# Altium footprint library Connector_Molex.PcbLib: 815 footprints (part 19 of 51)
Each footprint in its own frame and in the unit in brackets; x right, y up, seen from the top. Pads: shape width x height; smd on the part's side, far side on the other; paste and mask are expansions set on the pad; w line width, h text height; cw(c..) or ccw(c..) is an arc to the next point about the centre after c.
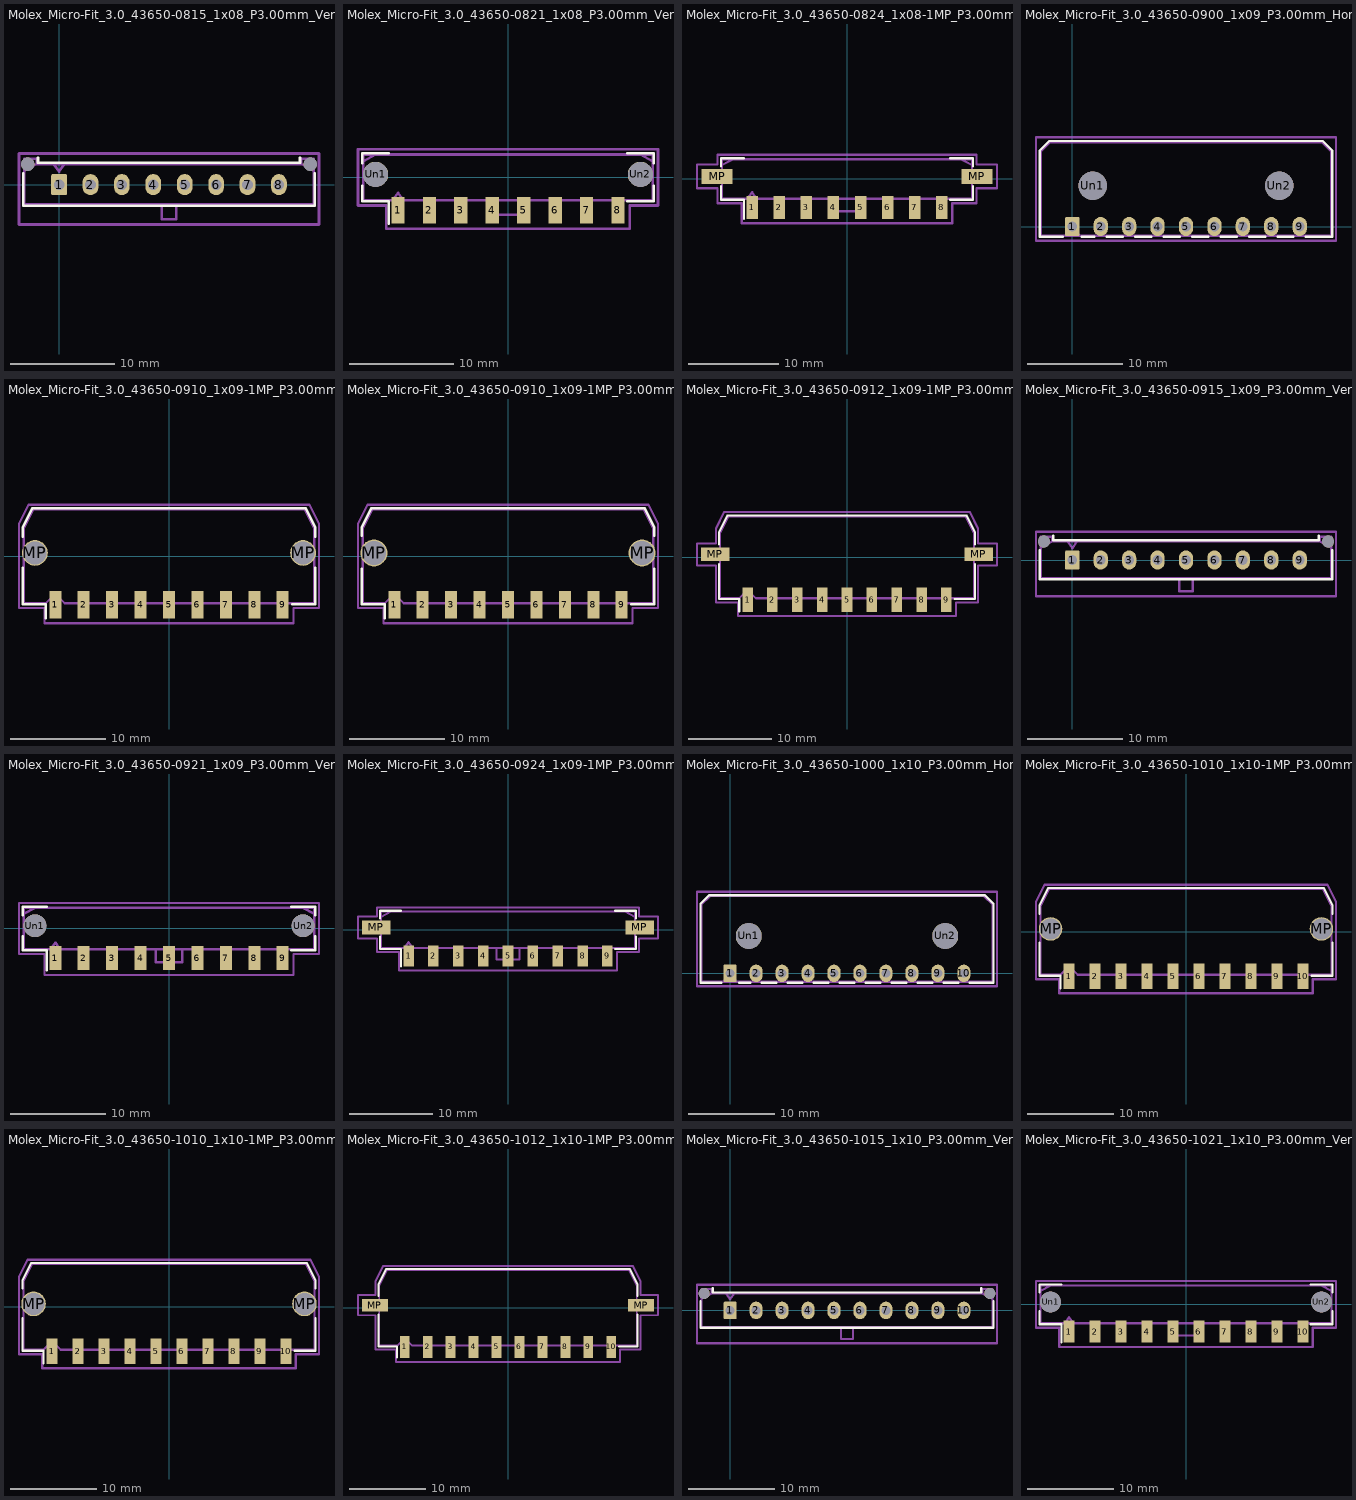
[diagram p18: the footprints below, top view; thin cyan lines are the x and y axes]

## Molex_Micro-Fit_3.0_43650-0815_1x08_P3.00mm_Vertical [mm]
pads (10):
  rrect17% 1.5x2.02 hole 1.02: 1(0,0)
  rrect100% 1.5x2.02 hole 1.02: 2(3,0) 3(6,0) 4(9,0) 5(12,0) 6(15,0) 7(18,0) 8(21,0)
  round 1.27 hole 1.27: Un1(-3,1.96) Un2(24,1.96)
F.SilkS:
  lines w0.254: -3.435,1.065 -3.435,-2.01 24.435,-2.01 24.435,1.065 ; -1.995,2.58 -2.015,2.58 -2.015,2.08 23.015,2.08 23.015,2.58 22.995,2.58
Top Assembly:
  lines w0.254: -3.325,1.34 -2.125,1.97 ; -0.5,1.97 0,1.263 0.5,1.97 ; 9.8,-1.9 9.8,-3.3 11.2,-3.3 11.2,-1.9 ; 24.325,1.34 23.125,1.97 ; -2.125,1.97 23.125,1.97 ; -2.125,1.97 -2.125,2.47 -3.325,2.47 -3.325,-1.9 24.325,-1.9 24.325,2.47 23.125,2.47 23.125,1.97
  text "'.Designator'" at 6.453,-2.04 h1
Top Courtyard:
  lines w0.254: -3.83,-3.8 24.83,-3.8 24.83,2.97 -3.83,2.97 -3.83,-3.8
Top Designator:
  text ".Designator" at 2.882,-0.923 h1.52

## Molex_Micro-Fit_3.0_43650-0821_1x08_P3.00mm_Vertical [mm]
pads (10):
  rect 1.27x2.54 smd: 1(-10.5,-3.135) 2(-7.5,-3.135) 3(-4.5,-3.135) 4(-1.5,-3.135) 5(1.5,-3.135) 6(4.5,-3.135) 7(7.5,-3.135) 8(10.5,-3.135)
  round 2.41 hole 2.41: Un1(-12.65,0.285) Un2(12.65,0.285)
F.SilkS:
  lines w0.254: -13.935,-0.8 -13.935,-2.295 -11.395,-2.295 -11.395,-4.405 ; -13.935,1.37 -13.935,2.295 -12.515,2.295 -11.395,2.295 ; 11.395,-2.295 13.935,-2.295 13.935,-0.8 ; 11.395,2.295 12.515,2.295 13.935,2.295 13.935,1.37
Top Assembly:
  lines w0.254: -13.825,1.555 -12.625,2.185 ; -11,-2.185 -10.5,-1.478 -10,-2.185 ; -1.4,-2.185 -1.4,-3.585 1.4,-3.585 1.4,-2.185 ; 13.825,1.555 12.625,2.185 ; -12.625,2.185 12.625,2.185 ; -12.625,2.185 -13.825,2.185 -13.825,-2.185 13.825,-2.185 13.825,2.185 12.625,2.185
  text "'.Designator'" at -4.047,-2.32 h1
Top Courtyard:
  lines w0.254: -14.33,-2.69 -11.64,-2.69 -11.64,-4.91 0,-4.91 11.64,-4.91 11.64,-2.69 14.33,-2.69 14.33,2.69 11.64,2.69 0,2.69 -11.64,2.69 -14.33,2.69 -14.33,-2.69
Top Designator:
  text ".Designator" at -7.618,-1.618 h1.52

## Molex_Micro-Fit_3.0_43650-0824_1x08-1MP_P3.00mm_Vertical [mm]
pads (10):
  rect 1.27x2.54 smd: 1(-10.5,-3.135) 2(-7.5,-3.135) 3(-4.5,-3.135) 4(-1.5,-3.135) 5(1.5,-3.135) 6(4.5,-3.135) 7(7.5,-3.135) 8(10.5,-3.135)
  rect 3.43x1.65 smd: MP(-14.385,0.285) MP(14.385,0.285)
F.SilkS:
  lines w0.254: -13.935,-0.8 -13.935,-2.295 -11.395,-2.295 -11.395,-4.405 ; -13.935,1.37 -13.935,2.295 -12.515,2.295 -11.395,2.295 ; 11.395,-2.295 13.935,-2.295 13.935,-0.8 ; 11.395,2.295 12.515,2.295 13.935,2.295 13.935,1.37
Top Assembly:
  lines w0.254: -13.825,1.555 -12.625,2.185 ; -11,-2.185 -10.5,-1.478 -10,-2.185 ; -1.4,-2.185 -1.4,-3.585 1.4,-3.585 1.4,-2.185 ; 13.825,1.555 12.625,2.185 ; -12.625,2.185 12.625,2.185 ; -12.625,2.185 -13.825,2.185 -13.825,-2.185 13.825,-2.185 13.825,2.185 12.625,2.185
  text "'.Designator'" at -4.047,-2.32 h1
Top Courtyard:
  lines w0.254: -16.6,-1.04 -14.33,-1.04 -14.33,-2.69 -11.64,-2.69 -11.64,-4.91 0,-4.91 11.64,-4.91 11.64,-2.69 14.33,-2.69 14.33,-1.04 16.6,-1.04 16.6,1.61 14.33,1.61 14.33,2.69 11.64,2.69 0,2.69 -11.64,2.69 -14.33,2.69 -14.33,1.61 -16.6,1.61 -16.6,-1.04
Top Designator:
  text ".Designator" at -7.618,-1.618 h1.52

## Molex_Micro-Fit_3.0_43650-0900_1x09_P3.00mm_Horizontal [mm]
pads (11):
  rrect17% 1.5x2.02 hole 1.02: 1(0,0)
  rrect100% 1.5x2.02 hole 1.02: 2(3,0) 3(6,0) 4(9,0) 5(12,0) 6(15,0) 7(18,0) 8(21,0) 9(24,0)
  round 3 hole 3: Un1(2.15,4.32) Un2(21.85,4.32)
F.SilkS:
  lines w0.254: -1.01,-1.09 -3.435,-1.09 -3.435,8.03 -2.435,9.03 26.435,9.03 27.435,8.03 27.435,-1.09 24.652,-1.09 ; 1.01,-1.09 2.348,-1.09 ; 3.652,-1.09 5.348,-1.09 ; 6.652,-1.09 8.348,-1.09 ; 9.652,-1.09 11.348,-1.09 ; 12.652,-1.09 14.348,-1.09 ; 15.652,-1.09 17.348,-1.09 ; 18.652,-1.09 20.348,-1.09 ; 21.652,-1.09 23.348,-1.09
Top Assembly:
  lines w0.254: -0.75,-0.98 0,0 0.75,-0.98 ; -3.325,-0.98 27.325,-0.98 27.325,7.92 26.325,8.92 -2.325,8.92 -3.325,7.92 -3.325,-0.98
  text "'.Designator'" at 7.953,7.38 h1
Top Courtyard:
  lines w0.254: -3.83,-1.49 27.83,-1.49 27.83,9.42 -3.83,9.42 -3.83,-1.49
Top Designator:
  text ".Designator" at 4.382,3.457 h1.52

## Molex_Micro-Fit_3.0_43650-0910_1x09-1MP_P3.00mm_Horizontal [mm]
pads (11):
  rect 1.27x2.92 smd: 1(-12,-5.12) 2(-9,-5.12) 3(-6,-5.12) 4(-3,-5.12) 5(0,-5.12) 6(3,-5.12) 7(6,-5.12) 8(9,-5.12) 9(12,-5.12)
  round 2.71 hole 2.41: MP(-14.15,0.35) MP(14.15,0.35)
F.SilkS:
  lines w0.254: -15.435,-1.225 -15.435,-5.06 -13.005,-5.06 -13.005,-6.52 ; -15.435,2.075 -15.435,3.06 -14.435,5.06 0,5.06 14.435,5.06 15.435,3.06 15.435,2.075 ; 13.005,-5.06 15.435,-5.06 15.435,-1.225
Top Assembly:
  lines w0.254: -15.325,-4.95 -13,-4.95 -12,-3.95 -11,-4.95 0,-4.95 12.635,-4.95 15.325,-4.95 15.325,1.705 15.325,2.95 14.325,4.95 0,4.95 -14.325,4.95 -15.325,2.95 -15.325,1.705 -15.325,-4.95
  text "'.Designator'" at -4.047,3.41 h1
Top Courtyard:
  lines w0.254: -15.83,-5.46 -13.14,-5.46 -13.14,-7.08 0,-7.08 13.14,-7.08 13.14,-5.46 15.83,-5.46 15.83,2.21 15.83,3.45 14.83,5.45 0,5.45 -14.83,5.45 -15.83,3.45 -15.83,2.21 -15.83,-5.46
Top Designator:
  text ".Designator" at -7.618,-1.323 h1.52

## Molex_Micro-Fit_3.0_43650-0910_1x09-1MP_P3.00mm_Horizontal_PnP [mm]
pads (11):
  rect 1.27x2.92 smd: 1(-12,-5.12) 2(-9,-5.12) 3(-6,-5.12) 4(-3,-5.12) 5(0,-5.12) 6(3,-5.12) 7(6,-5.12) 8(9,-5.12) 9(12,-5.12)
  round 2.84 hole 2.54: MP(-14.15,0.35) MP(14.15,0.35)
F.SilkS:
  lines w0.254: -15.435,-1.29 -15.435,-5.06 -13.005,-5.06 -13.005,-6.52 ; -15.435,2.14 -15.435,3.06 -14.435,5.06 0,5.06 14.435,5.06 15.435,3.06 15.435,2.14 ; 13.005,-5.06 15.435,-5.06 15.435,-1.29
Top Assembly:
  lines w0.254: -15.325,-4.95 -13,-4.95 -12,-3.95 -11,-4.95 0,-4.95 12.635,-4.95 15.325,-4.95 15.325,1.77 15.325,2.95 14.325,4.95 0,4.95 -14.325,4.95 -15.325,2.95 -15.325,1.77 -15.325,-4.95
  text "'.Designator'" at -4.047,3.41 h1
Top Courtyard:
  lines w0.254: -15.83,-5.46 -13.14,-5.46 -13.14,-7.08 0,-7.08 13.14,-7.08 13.14,-5.46 15.83,-5.46 15.83,2.27 15.83,3.45 14.83,5.45 0,5.45 -14.83,5.45 -15.83,3.45 -15.83,2.27 -15.83,-5.46
Top Designator:
  text ".Designator" at -7.618,-1.323 h1.52

## Molex_Micro-Fit_3.0_43650-0912_1x09-1MP_P3.00mm_Horizontal [mm]
pads (11):
  rect 1.27x2.92 smd: 1(-12,-5.12) 2(-9,-5.12) 3(-6,-5.12) 4(-3,-5.12) 5(0,-5.12) 6(3,-5.12) 7(6,-5.12) 8(9,-5.12) 9(12,-5.12)
  rect 3.43x1.65 smd: MP(-15.885,0.35) MP(15.885,0.35)
F.SilkS:
  lines w0.254: -15.435,-0.845 -15.435,-5.06 -13.005,-5.06 -13.005,-6.52 ; -15.435,1.545 -15.435,3.06 -14.435,5.06 0,5.06 14.435,5.06 15.435,3.06 15.435,1.545 ; 13.005,-5.06 15.435,-5.06 15.435,-0.845
Top Assembly:
  lines w0.254: -15.325,-4.95 -13,-4.95 -12,-3.95 -11,-4.95 0,-4.95 12.635,-4.95 15.325,-4.95 15.325,1.175 15.325,2.95 14.325,4.95 0,4.95 -14.325,4.95 -15.325,2.95 -15.325,1.175 -15.325,-4.95
  text "'.Designator'" at -4.047,3.41 h1
Top Courtyard:
  lines w0.254: -18.1,-0.98 -15.83,-0.98 -15.83,-5.46 -13.14,-5.46 -13.14,-7.08 0,-7.08 13.14,-7.08 13.14,-5.46 15.83,-5.46 15.83,-0.98 18.1,-0.98 18.1,1.68 15.83,1.68 15.83,3.45 14.83,5.45 0,5.45 -14.83,5.45 -15.83,3.45 -15.83,1.68 -18.1,1.68 -18.1,-0.98
Top Designator:
  text ".Designator" at -7.618,-1.323 h1.52

## Molex_Micro-Fit_3.0_43650-0915_1x09_P3.00mm_Vertical [mm]
pads (11):
  rrect17% 1.5x2.02 hole 1.02: 1(0,0)
  rrect100% 1.5x2.02 hole 1.02: 2(3,0) 3(6,0) 4(9,0) 5(12,0) 6(15,0) 7(18,0) 8(21,0) 9(24,0)
  round 1.27 hole 1.27: Un1(-3,1.96) Un2(27,1.96)
F.SilkS:
  lines w0.254: -3.435,1.065 -3.435,-2.01 27.435,-2.01 27.435,1.065 ; -1.995,2.58 -2.015,2.58 -2.015,2.08 26.015,2.08 26.015,2.58 25.995,2.58
Top Assembly:
  lines w0.254: -3.325,1.34 -2.125,1.97 ; -0.5,1.97 0,1.263 0.5,1.97 ; 11.3,-1.9 11.3,-3.3 12.7,-3.3 12.7,-1.9 ; 27.325,1.34 26.125,1.97 ; -2.125,1.97 26.125,1.97 ; -2.125,1.97 -2.125,2.47 -3.325,2.47 -3.325,-1.9 27.325,-1.9 27.325,2.47 26.125,2.47 26.125,1.97
  text "'.Designator'" at 7.953,-2.04 h1
Top Courtyard:
  lines w0.254: -3.83,-3.8 27.83,-3.8 27.83,2.97 -3.83,2.97 -3.83,-3.8
Top Designator:
  text ".Designator" at 4.382,-0.923 h1.52

## Molex_Micro-Fit_3.0_43650-0921_1x09_P3.00mm_Vertical [mm]
pads (11):
  rect 1.27x2.54 smd: 1(-12,-3.135) 2(-9,-3.135) 3(-6,-3.135) 4(-3,-3.135) 5(0,-3.135) 6(3,-3.135) 7(6,-3.135) 8(9,-3.135) 9(12,-3.135)
  round 2.41 hole 2.41: Un1(-14.15,0.285) Un2(14.15,0.285)
F.SilkS:
  lines w0.254: -15.435,-0.8 -15.435,-2.295 -12.895,-2.295 -12.895,-4.405 ; -15.435,1.37 -15.435,2.295 -14.015,2.295 -12.895,2.295 ; 12.895,-2.295 15.435,-2.295 15.435,-0.8 ; 12.895,2.295 14.015,2.295 15.435,2.295 15.435,1.37
Top Assembly:
  lines w0.254: -15.325,1.555 -14.125,2.185 ; -12.5,-2.185 -12,-1.478 -11.5,-2.185 ; -1.4,-2.185 -1.4,-3.585 1.4,-3.585 1.4,-2.185 ; 15.325,1.555 14.125,2.185 ; -14.125,2.185 14.125,2.185 ; -14.125,2.185 -15.325,2.185 -15.325,-2.185 15.325,-2.185 15.325,2.185 14.125,2.185
  text "'.Designator'" at -4.047,-2.32 h1
Top Courtyard:
  lines w0.254: -15.83,-2.69 -13.14,-2.69 -13.14,-4.91 0,-4.91 13.14,-4.91 13.14,-2.69 15.83,-2.69 15.83,2.69 13.14,2.69 0,2.69 -13.14,2.69 -15.83,2.69 -15.83,-2.69
Top Designator:
  text ".Designator" at -7.618,-1.618 h1.52

## Molex_Micro-Fit_3.0_43650-0924_1x09-1MP_P3.00mm_Vertical [mm]
pads (11):
  rect 1.27x2.54 smd: 1(-12,-3.135) 2(-9,-3.135) 3(-6,-3.135) 4(-3,-3.135) 5(0,-3.135) 6(3,-3.135) 7(6,-3.135) 8(9,-3.135) 9(12,-3.135)
  rect 3.43x1.65 smd: MP(-15.885,0.285) MP(15.885,0.285)
F.SilkS:
  lines w0.254: -15.435,-0.8 -15.435,-2.295 -12.895,-2.295 -12.895,-4.405 ; -15.435,1.37 -15.435,2.295 -14.015,2.295 -12.895,2.295 ; 12.895,-2.295 15.435,-2.295 15.435,-0.8 ; 12.895,2.295 14.015,2.295 15.435,2.295 15.435,1.37
Top Assembly:
  lines w0.254: -15.325,1.555 -14.125,2.185 ; -12.5,-2.185 -12,-1.478 -11.5,-2.185 ; -1.4,-2.185 -1.4,-3.585 1.4,-3.585 1.4,-2.185 ; 15.325,1.555 14.125,2.185 ; -14.125,2.185 14.125,2.185 ; -14.125,2.185 -15.325,2.185 -15.325,-2.185 15.325,-2.185 15.325,2.185 14.125,2.185
  text "'.Designator'" at -4.047,-2.32 h1
Top Courtyard:
  lines w0.254: -18.1,-1.04 -15.83,-1.04 -15.83,-2.69 -13.14,-2.69 -13.14,-4.91 0,-4.91 13.14,-4.91 13.14,-2.69 15.83,-2.69 15.83,-1.04 18.1,-1.04 18.1,1.61 15.83,1.61 15.83,2.69 13.14,2.69 0,2.69 -13.14,2.69 -15.83,2.69 -15.83,1.61 -18.1,1.61 -18.1,-1.04
Top Designator:
  text ".Designator" at -7.618,-1.618 h1.52

## Molex_Micro-Fit_3.0_43650-1000_1x10_P3.00mm_Horizontal [mm]
pads (12):
  rrect17% 1.5x2.02 hole 1.02: 1(0,0)
  rrect100% 1.5x2.02 hole 1.02: 2(3,0) 3(6,0) 4(9,0) 5(12,0) 6(15,0) 7(18,0) 8(21,0) 9(24,0) 10(27,0)
  round 3 hole 3: Un1(2.15,4.32) Un2(24.85,4.32)
F.SilkS:
  lines w0.254: -1.01,-1.09 -3.435,-1.09 -3.435,8.03 -2.435,9.03 29.435,9.03 30.435,8.03 30.435,-1.09 27.652,-1.09 ; 1.01,-1.09 2.348,-1.09 ; 3.652,-1.09 5.348,-1.09 ; 6.652,-1.09 8.348,-1.09 ; 9.652,-1.09 11.348,-1.09 ; 12.652,-1.09 14.348,-1.09 ; 15.652,-1.09 17.348,-1.09 ; 18.652,-1.09 20.348,-1.09 ; 21.652,-1.09 23.348,-1.09 ; 24.652,-1.09 26.348,-1.09
Top Assembly:
  lines w0.254: -0.75,-0.98 0,0 0.75,-0.98 ; -3.325,-0.98 30.325,-0.98 30.325,7.92 29.325,8.92 -2.325,8.92 -3.325,7.92 -3.325,-0.98
  text "'.Designator'" at 9.453,7.38 h1
Top Courtyard:
  lines w0.254: -3.83,-1.49 30.83,-1.49 30.83,9.42 -3.83,9.42 -3.83,-1.49
Top Designator:
  text ".Designator" at 5.882,3.457 h1.52

## Molex_Micro-Fit_3.0_43650-1010_1x10-1MP_P3.00mm_Horizontal [mm]
pads (12):
  rect 1.27x2.92 smd: 1(-13.5,-5.12) 2(-10.5,-5.12) 3(-7.5,-5.12) 4(-4.5,-5.12) 5(-1.5,-5.12) 6(1.5,-5.12) 7(4.5,-5.12) 8(7.5,-5.12) 9(10.5,-5.12) 10(13.5,-5.12)
  round 2.71 hole 2.41: MP(-15.65,0.35) MP(15.65,0.35)
F.SilkS:
  lines w0.254: -16.935,-1.225 -16.935,-5.06 -14.505,-5.06 -14.505,-6.52 ; -16.935,2.075 -16.935,3.06 -15.935,5.06 0,5.06 15.935,5.06 16.935,3.06 16.935,2.075 ; 14.505,-5.06 16.935,-5.06 16.935,-1.225
Top Assembly:
  lines w0.254: -16.825,-4.95 -14.5,-4.95 -13.5,-3.95 -12.5,-4.95 0,-4.95 14.135,-4.95 16.825,-4.95 16.825,1.705 16.825,2.95 15.825,4.95 0,4.95 -15.825,4.95 -16.825,2.95 -16.825,1.705 -16.825,-4.95
  text "'.Designator'" at -4.047,3.41 h1
Top Courtyard:
  lines w0.254: -17.33,-5.46 -14.64,-5.46 -14.64,-7.08 0,-7.08 14.64,-7.08 14.64,-5.46 17.33,-5.46 17.33,2.21 17.33,3.45 16.33,5.45 0,5.45 -16.33,5.45 -17.33,3.45 -17.33,2.21 -17.33,-5.46
Top Designator:
  text ".Designator" at -7.618,-1.323 h1.52

## Molex_Micro-Fit_3.0_43650-1010_1x10-1MP_P3.00mm_Horizontal_PnP [mm]
pads (12):
  rect 1.27x2.92 smd: 1(-13.5,-5.12) 2(-10.5,-5.12) 3(-7.5,-5.12) 4(-4.5,-5.12) 5(-1.5,-5.12) 6(1.5,-5.12) 7(4.5,-5.12) 8(7.5,-5.12) 9(10.5,-5.12) 10(13.5,-5.12)
  round 2.84 hole 2.54: MP(-15.65,0.35) MP(15.65,0.35)
F.SilkS:
  lines w0.254: -16.935,-1.29 -16.935,-5.06 -14.505,-5.06 -14.505,-6.52 ; -16.935,2.14 -16.935,3.06 -15.935,5.06 0,5.06 15.935,5.06 16.935,3.06 16.935,2.14 ; 14.505,-5.06 16.935,-5.06 16.935,-1.29
Top Assembly:
  lines w0.254: -16.825,-4.95 -14.5,-4.95 -13.5,-3.95 -12.5,-4.95 0,-4.95 14.135,-4.95 16.825,-4.95 16.825,1.77 16.825,2.95 15.825,4.95 0,4.95 -15.825,4.95 -16.825,2.95 -16.825,1.77 -16.825,-4.95
  text "'.Designator'" at -4.047,3.41 h1
Top Courtyard:
  lines w0.254: -17.33,-5.46 -14.64,-5.46 -14.64,-7.08 0,-7.08 14.64,-7.08 14.64,-5.46 17.33,-5.46 17.33,2.27 17.33,3.45 16.33,5.45 0,5.45 -16.33,5.45 -17.33,3.45 -17.33,2.27 -17.33,-5.46
Top Designator:
  text ".Designator" at -7.618,-1.323 h1.52

## Molex_Micro-Fit_3.0_43650-1012_1x10-1MP_P3.00mm_Horizontal [mm]
pads (12):
  rect 1.27x2.92 smd: 1(-13.5,-5.12) 2(-10.5,-5.12) 3(-7.5,-5.12) 4(-4.5,-5.12) 5(-1.5,-5.12) 6(1.5,-5.12) 7(4.5,-5.12) 8(7.5,-5.12) 9(10.5,-5.12) 10(13.5,-5.12)
  rect 3.43x1.65 smd: MP(-17.385,0.35) MP(17.385,0.35)
F.SilkS:
  lines w0.254: -16.935,-0.845 -16.935,-5.06 -14.505,-5.06 -14.505,-6.52 ; -16.935,1.545 -16.935,3.06 -15.935,5.06 0,5.06 15.935,5.06 16.935,3.06 16.935,1.545 ; 14.505,-5.06 16.935,-5.06 16.935,-0.845
Top Assembly:
  lines w0.254: -16.825,-4.95 -14.5,-4.95 -13.5,-3.95 -12.5,-4.95 0,-4.95 14.135,-4.95 16.825,-4.95 16.825,1.175 16.825,2.95 15.825,4.95 0,4.95 -15.825,4.95 -16.825,2.95 -16.825,1.175 -16.825,-4.95
  text "'.Designator'" at -4.047,3.41 h1
Top Courtyard:
  lines w0.254: -19.6,-0.98 -17.33,-0.98 -17.33,-5.46 -14.64,-5.46 -14.64,-7.08 0,-7.08 14.64,-7.08 14.64,-5.46 17.33,-5.46 17.33,-0.98 19.6,-0.98 19.6,1.68 17.33,1.68 17.33,3.45 16.33,5.45 0,5.45 -16.33,5.45 -17.33,3.45 -17.33,1.68 -19.6,1.68 -19.6,-0.98
Top Designator:
  text ".Designator" at -7.618,-1.323 h1.52

## Molex_Micro-Fit_3.0_43650-1015_1x10_P3.00mm_Vertical [mm]
pads (12):
  rrect17% 1.5x2.02 hole 1.02: 1(0,0)
  rrect100% 1.5x2.02 hole 1.02: 2(3,0) 3(6,0) 4(9,0) 5(12,0) 6(15,0) 7(18,0) 8(21,0) 9(24,0) 10(27,0)
  round 1.27 hole 1.27: Un1(-3,1.96) Un2(30,1.96)
F.SilkS:
  lines w0.254: -3.435,1.065 -3.435,-2.01 30.435,-2.01 30.435,1.065 ; -1.995,2.58 -2.015,2.58 -2.015,2.08 29.015,2.08 29.015,2.58 28.995,2.58
Top Assembly:
  lines w0.254: -3.325,1.34 -2.125,1.97 ; -0.5,1.97 0,1.263 0.5,1.97 ; 12.8,-1.9 12.8,-3.3 14.2,-3.3 14.2,-1.9 ; 30.325,1.34 29.125,1.97 ; -2.125,1.97 29.125,1.97 ; -2.125,1.97 -2.125,2.47 -3.325,2.47 -3.325,-1.9 30.325,-1.9 30.325,2.47 29.125,2.47 29.125,1.97
  text "'.Designator'" at 9.453,-2.04 h1
Top Courtyard:
  lines w0.254: -3.83,-3.8 30.83,-3.8 30.83,2.97 -3.83,2.97 -3.83,-3.8
Top Designator:
  text ".Designator" at 5.882,-0.923 h1.52

## Molex_Micro-Fit_3.0_43650-1021_1x10_P3.00mm_Vertical [mm]
pads (12):
  rect 1.27x2.54 smd: 1(-13.5,-3.135) 2(-10.5,-3.135) 3(-7.5,-3.135) 4(-4.5,-3.135) 5(-1.5,-3.135) 6(1.5,-3.135) 7(4.5,-3.135) 8(7.5,-3.135) 9(10.5,-3.135) 10(13.5,-3.135)
  round 2.41 hole 2.41: Un1(-15.65,0.285) Un2(15.65,0.285)
F.SilkS:
  lines w0.254: -16.935,-0.8 -16.935,-2.295 -14.395,-2.295 -14.395,-4.405 ; -16.935,1.37 -16.935,2.295 -15.515,2.295 -14.395,2.295 ; 14.395,-2.295 16.935,-2.295 16.935,-0.8 ; 14.395,2.295 15.515,2.295 16.935,2.295 16.935,1.37
Top Assembly:
  lines w0.254: -16.825,1.555 -15.625,2.185 ; -14,-2.185 -13.5,-1.478 -13,-2.185 ; -1.4,-2.185 -1.4,-3.585 1.4,-3.585 1.4,-2.185 ; 16.825,1.555 15.625,2.185 ; -15.625,2.185 15.625,2.185 ; -15.625,2.185 -16.825,2.185 -16.825,-2.185 16.825,-2.185 16.825,2.185 15.625,2.185
  text "'.Designator'" at -4.047,-2.32 h1
Top Courtyard:
  lines w0.254: -17.33,-2.69 -14.64,-2.69 -14.64,-4.91 0,-4.91 14.64,-4.91 14.64,-2.69 17.33,-2.69 17.33,2.69 14.64,2.69 0,2.69 -14.64,2.69 -17.33,2.69 -17.33,-2.69
Top Designator:
  text ".Designator" at -7.618,-1.618 h1.52